# Altium schematic symbol library Conn_Harting_09452819001.SchLib: 1 symbol
Pins are listed as number, name and electrical type; pins without a type are passive.

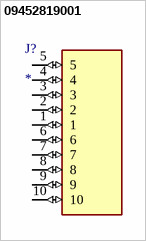
[diagram p0: symbol 09452819001]

## 09452819001
designator J?
Connector; Manufacturer_Name: HARTING; Manufacturer_Part_Number: 09452819001; Datasheet Link: https://b2b.harting.com/files/download/PRD/PDF_TS/09452819001_100805966DRW000C.pdf?siteName=Ebusiness+Site&autoLogoutEnabled=true&autoLogoutTime=1800&showPrivacyEmailAgreement=false&contextURL=https%3A%2F%2Fb2b.harting.com%2Febusiness%2Fen_us; Mouser Part Number: 617-09452819001; Mouser Price/Stock: https://www.mouser.co.uk/ProductDetail/HARTING/09452819001?qs=T3oQrply3y%2Fl7UBgasft0g%3D%3D; Arrow Part Number: 09452819001; Arrow Price/Stock: https://www.arrow.com/en/products/09452819001/harting
footprint 09452812561
pins: 1 (io), 2 (io), 3 (io), 4 (io), 5 (io), 6 (io), 7 (io), 8 (io), 9 (io), 10 (io)